# Altium footprint library Conn_On_Shore_Technology_Inc._ED555-7DS_eec_0.PcbLib: 1 footprints
Each footprint in its own frame and in the unit in brackets; x right, y up, seen from the top. Pads: shape width x height; smd on the part's side, far side on the other; paste and mask are expansions set on the pad; w line width, h text height; cw(c..) or ccw(c..) is an arc to the next point about the centre after c.
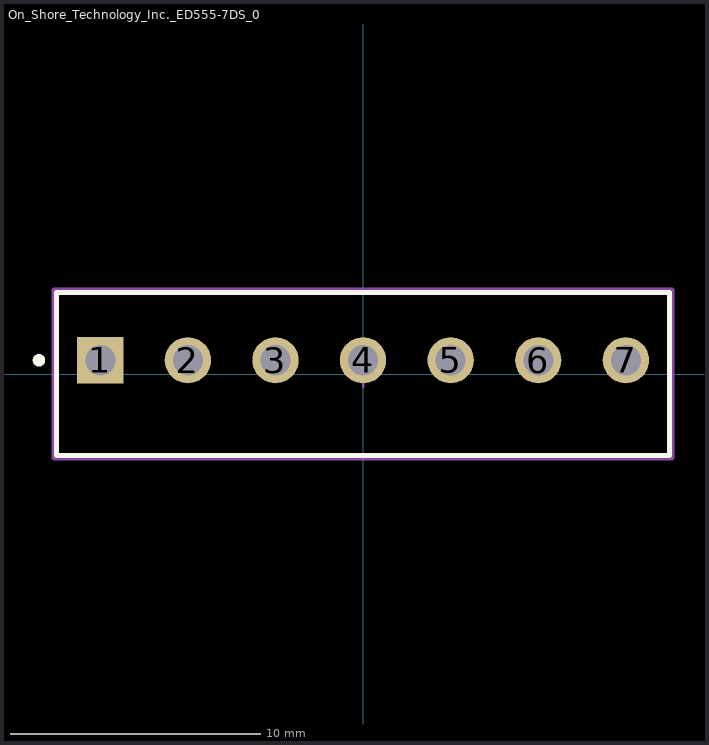
[diagram p0: the footprint, top view; thin cyan lines are the x and y axes]

## On_Shore_Technology_Inc._ED555-7DS_0 [mm]
pads (7):
  rect 1.85x1.85 hole 1.2 paste-1000 mask+0: 1(-10.5,0.55)
  round 1.85 hole 1.2 paste-1000 mask+0: 2(-7,0.55) 3(-3.5,0.55) 4(0,0.55) 5(3.5,0.55) 6(7,0.55) 7(10.5,0.55)
Top Overlay:
  circle w0.25: c-12.95,0.55 r0.125
  lines w0.2: -12.25,-3.25 12.25,-3.25 12.25,3.25 -12.25,3.25 -12.25,-3.25
Mechanical 10:
  lines w0.2: -12.35,-3.35 12.35,-3.35 12.35,3.35 -12.35,3.35 -12.35,-3.35
  text ".Designator" at 0,0 h1
Mechanical 12:
  lines w0.15: -12.25,-3.25 12.25,-3.25 12.25,3.25 -12.25,3.25 -12.25,-3.25
Mechanical 15:
  lines w0.1: -0.5,0 0.5,0 ; 0,-0.5 0,0.5
  lines w0.2: -12.35,-3.35 12.35,-3.35 12.35,3.35 -12.35,3.35 -12.35,-3.35
3D body "Conn_On_Shore_Technology_Inc._ED555-7DS_eec.STEP": height 0.25, standoff 0, extent -12.35,-3.35 12.35,3.35